# EAGLE library part KDFI_V1.3 (library k-data Mechanik)
KDFI V1.3 Aufsteckbar
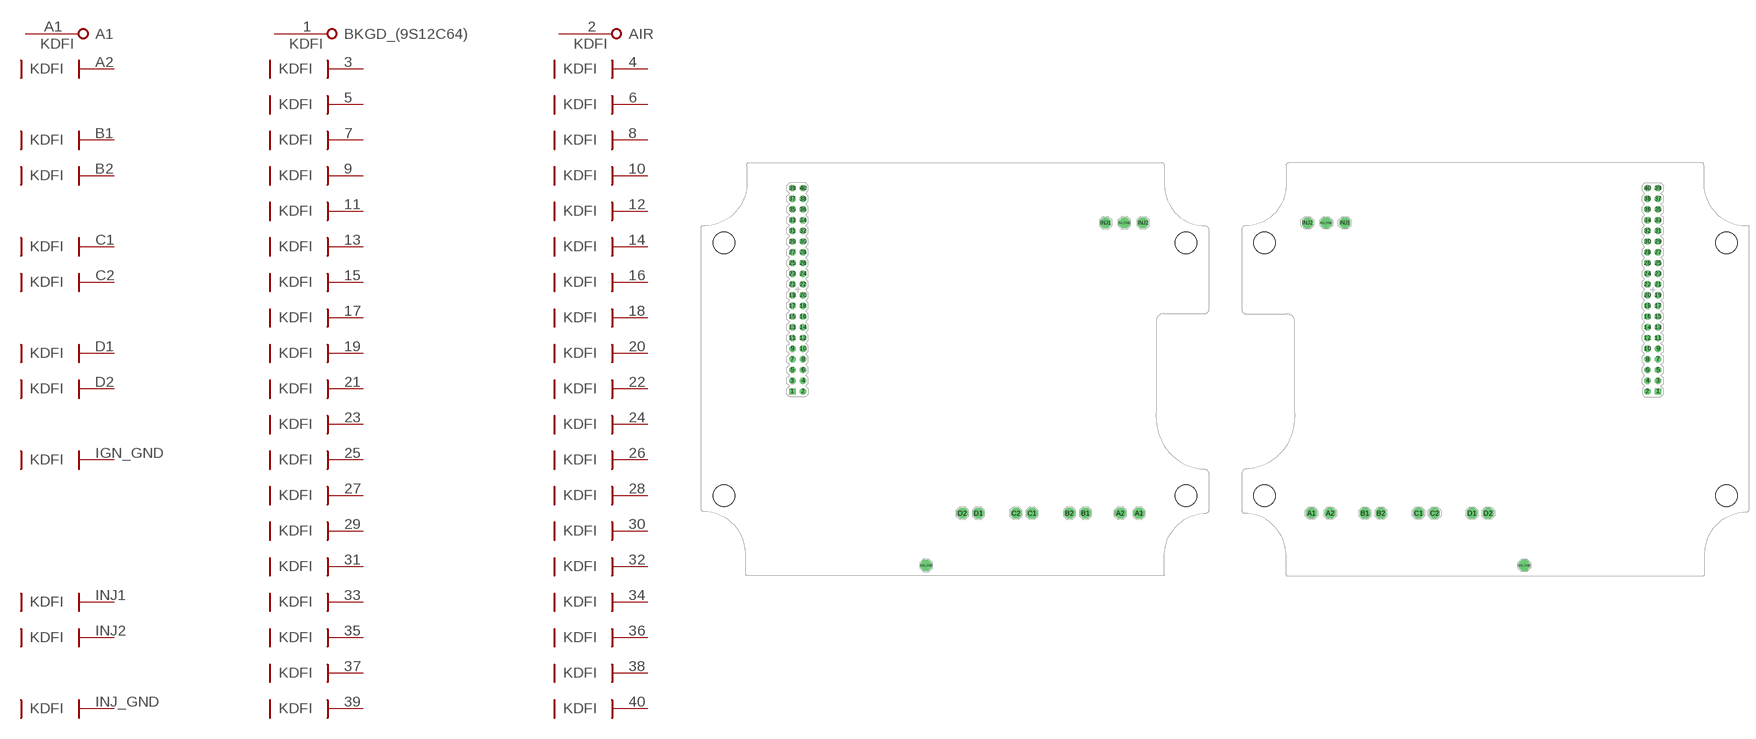
[diagram p1: symbol with the pads of KDFI_V1.3_BOTTOM; footprints KDFI_V1.3_BOTTOM, KDFI_V1.3_TOP]

Designator prefix KDFI; gates A2=CONNECTOR B1=CONNECTOR B2=CONNECTOR C1=CONNECTOR C2=CONNECTOR D1=CONNECTOR D2=CONNECTOR IGN_GND=CONNECTOR INJ1=CONNECTOR INJ2=CONNECTOR INJ_GND=CONNECTOR 3=CONNECTOR 4=CONNECTOR 5=CONNECTOR 6=CONNECTOR 7=CONNECTOR 8=CONNECTOR 9=CONNECTOR 10=CONNECTOR 11=CONNECTOR 12=CONNECTOR 13=CONNECTOR 14=CONNECTOR 15=CONNECTOR 16=CONNECTOR 17=CONNECTOR 18=CONNECTOR 19=CONNECTOR 20=CONNECTOR 21=CONNECTOR 22=CONNECTOR 23=CONNECTOR 24=CONNECTOR 25=CONNECTOR 26=CONNECTOR 27=CONNECTOR 28=CONNECTOR 29=CONNECTOR 30=CONNECTOR 31=CONNECTOR 32=CONNECTOR 33=CONNECTOR 34=CONNECTOR 35=CONNECTOR 36=CONNECTOR 37=CONNECTOR 38=CONNECTOR 39=CONNECTOR 40=CONNECTOR 1=KDFI-CON_BKGD_(9S12C64) A1=KDFI-CON_A1 2=KDFI-CON_AIR

## KDFI_V1.3-BOTTOM  [KDFI_V1.3_BOTTOM]
1  1:BKGD_(9S12C64)
2  2:AIR
3  3:1
4  4:1
5  5:1
6  6:1
7  7:1
8  8:1
9  9:1
10  10:1
11  11:1
12  12:1
13  13:1
14  14:1
15  15:1
16  16:1
17  17:1
18  18:1
19  19:1
20  20:1
21  21:1
22  22:1
23  23:1
24  24:1
25  25:1
26  26:1
27  27:1
28  28:1
29  29:1
30  30:1
31  31:1
32  32:1
33  33:1
34  34:1
35  35:1
36  36:1
37  37:1
38  38:1
39  39:1
40  40:1
A1  A1:A1
A2  A2:1
B1  B1:1
B2  B2:1
C1  C1:1
C2  C2:1
D1  D1:1
D2  D2:1
IGN_GND  IGN_GND:1
INJ1  INJ1:1
INJ2  INJ2:1
INJ_GND  INJ_GND:1

## KDFI_V1.3-TOP  [KDFI_V1.3_TOP]
Pads as for KDFI_V1.3_BOTTOM

## Footprint KDFI_V1.3_BOTTOM (pad centres in mm)
KDFI V1.3 BOTTOM-View
drill 1 pad 1.5 square: 1 -98.425,43.815
drill 1 pad 1.5 octagon: 2 -95.885,43.815; 3 -98.425,46.355; 4 -95.885,46.355; 5 -98.425,48.895; 6 -95.885,48.895; 7 -98.425,51.435; 8 -95.885,51.435; 9 -98.425,53.975; 10 -95.885,53.975; 11 -98.425,56.515; 12 -95.885,56.515; 13 -98.425,59.055; 14 -95.885,59.055; 15 -98.425,61.595; 16 -95.885,61.595; 17 -98.425,64.135; 18 -95.885,64.135; 19 -98.425,66.675; 20 -95.885,66.675; 21 -98.425,69.215; 22 -95.885,69.215; 23 -98.425,71.755; 24 -95.885,71.755; 25 -98.425,74.295; 26 -95.885,74.295; 27 -98.425,76.835; 28 -95.885,76.835; 29 -98.425,79.375; 30 -95.885,79.375; 31 -98.425,81.915; 32 -95.885,81.915; 33 -98.425,84.455; 34 -95.885,84.455; 35 -98.425,86.995; 36 -95.885,86.995; 37 -98.425,89.535; 38 -95.885,89.535; 39 -98.425,92.075; 40 -95.885,92.075
drill 1.4 pad 2.55 octagon: A1 -16.192,14.922; A2 -20.637,14.922; B1 -28.892,14.922; B2 -32.703,14.922; C1 -41.593,14.922; C2 -45.403,14.922; D1 -54.292,14.922; D2 -58.102,14.922; IGN_GND -66.675,2.54; INJ1 -24.13,83.82; INJ2 -15.24,83.82; INJ_GND -19.685,83.82
hole 5.1 at -5.08,19.05
hole 5.1 at -5.08,79.058
hole 5.1 at -114.618,79.058
hole 5.1 at -114.618,19.05

## Footprint KDFI_V1.3_TOP (pad centres in mm)
KDFI V1.3 TOP-View
drill 1 pad 1.5 square: 1 98.425,43.815
drill 1 pad 1.5 octagon: 2 95.885,43.815; 3 98.425,46.355; 4 95.885,46.355; 5 98.425,48.895; 6 95.885,48.895; 7 98.425,51.435; 8 95.885,51.435; 9 98.425,53.975; 10 95.885,53.975; 11 98.425,56.515; 12 95.885,56.515; 13 98.425,59.055; 14 95.885,59.055; 15 98.425,61.595; 16 95.885,61.595; 17 98.425,64.135; 18 95.885,64.135; 19 98.425,66.675; 20 95.885,66.675; 21 98.425,69.215; 22 95.885,69.215; 23 98.425,71.755; 24 95.885,71.755; 25 98.425,74.295; 26 95.885,74.295; 27 98.425,76.835; 28 95.885,76.835; 29 98.425,79.375; 30 95.885,79.375; 31 98.425,81.915; 32 95.885,81.915; 33 98.425,84.455; 34 95.885,84.455; 35 98.425,86.995; 36 95.885,86.995; 37 98.425,89.535; 38 95.885,89.535; 39 98.425,92.075; 40 95.885,92.075
drill 1.4 pad 2.55 octagon: A1 16.192,14.922; A2 20.637,14.922; B1 28.892,14.922; B2 32.703,14.922; C1 41.593,14.922; C2 45.403,14.922; D1 54.292,14.922; D2 58.102,14.922; IGN_GND 66.675,2.54; INJ1 24.13,83.82; INJ2 15.24,83.82; INJ_GND 19.685,83.82
hole 5.1 at 5.08,19.05
hole 5.1 at 5.08,79.058
hole 5.1 at 114.618,79.058
hole 5.1 at 114.618,19.05